# Altium schematic symbol library EwgSwitchers.SchLib: 18 symbols
Pins are listed as number, name and electrical type; pins without a type are passive.

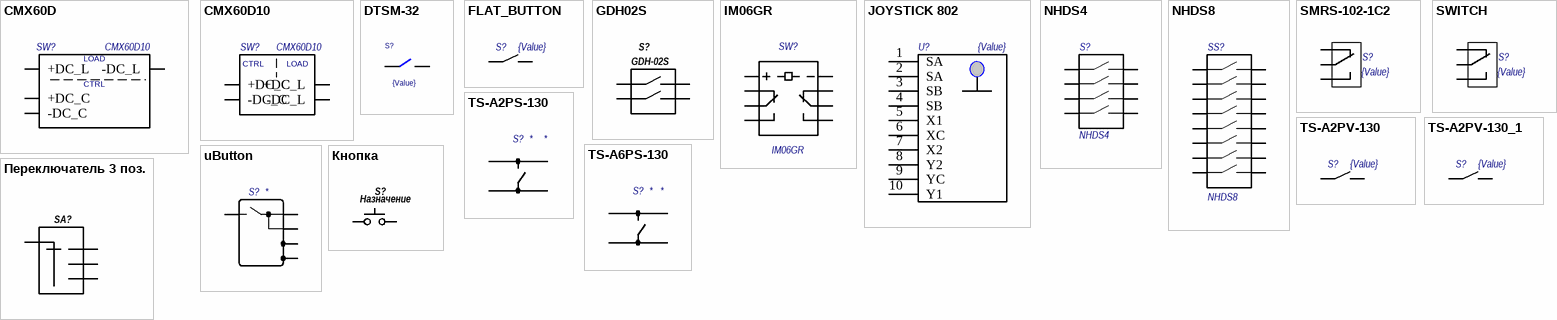
[diagram p0: symbols CMX60D to Переключатель 3 поз.]

## CMX60D
designator SW?  value CMX60D10  (hidden comment: CMX60D)
Реле; Наименование: Crydom, CMX60D10; Тип монтажа: Штыревой; Тип компонента: Реле
footprint CMX60DXX_CRYDOM
pins: 1 +DC_L, 2 -DC_L, 3 +DC_C, 4 -DC_C
text: LOAD; CTRL

## CMX60D10
designator SW?
Реле; Наименование: Crydom, CMX60D10; Тип монтажа: Штыревой; Тип компонента: Реле; Value: CMX60D10
footprint CMX-XXX_CRYDOM
pins: 1 +DC_L, 2 -DC_L, 3 +DC_C, 4 -DC_C
text: CTRL; LOAD

## DTSM-32
designator S?  value {Value}  (hidden comment: *)
Кнопка тактовая; Наименование: Wealth Metal Factory, TD-02XA (DTSM-32N); Тип монтажа: Поверхностный; Тип компонента: Кнопка тактовая
footprint DTSM-32
pins: 1, 2

## FLAT_BUTTON
designator S?  value {Value}  (hidden comment: *)
FLAT_BUTTON; Тип компонента: FLAT_BUTTON
footprint FLAT_BUTTON
pins: 1, 2

## GDH02S
designator S?, comment GDH-02S
DIP-переключатель; Температурный разброс: -30...+85°C; Тип корпуса: SMT; Тип монтажа: Поверхностный; Характеристики: 24V, 25mA; Наименование: GDH-02S; Тип компонента: DIP-переключатель
footprint GDH02S (DIP-switch)
pins: 1 1-4, 2 2-3, 3 3-2, 4 4-1

## IM06GR
designator SW?
Реле; Наименование: Tyco, 2-1462037-3 (IM06GR); Тип монтажа: Поверхностный; Value: *; Тип компонента: Реле
footprint IM06GR
pins: 1, 2, 3, 4, 5, 6, 7, 8

## JOYSTICK 802
designator U?  value {Value}  (hidden comment: *)
Джойстик; Наименование: Megatron, TRY-802; Тип монтажа: Штыревой; Тип компонента: Джойстик
footprint JOYSTICK-802
pins: 1 SA, 2 SA, 3 SB, 4 SB, 5 X1, 6 XC, 7 X2, 8 Y2, 9 YC, 10 Y1

## NHDS4
designator S?
DIP-переключатель; Наименование: NHDS-04; Тип монтажа: Поверхностный; Value: *; Тип компонента: DIP-переключатель
footprint NHDS4
pins: 1, 2, 3, 4, 5, 6, 7, 8

## NHDS8
designator SS?
DIP-переключатель; Наименование: NHDS-08; Тип монтажа: Поверхностный; Value: *; Тип компонента: DIP-переключатель
footprint NHDS8
pins: 1, 2, 3, 4, 5, 6, 7, 8, 9, 10, 11, 12, 13, 14, 15, 16

## SMRS-102-1C2
designator S?, comment {Value}
SMRS-102-1C2; Наименование: Jietong Switch, SMRS-102-1C2-B/B (SWR-82); Тип монтажа: Поверхностный; Тип компонента: SMRS-102-1C2; Value: {Value}
footprint SMRS-102-1C2
pins: 1, 2, 3

## SWITCH
designator S?, comment {Value}
SWITCH; Тип компонента: SWITCH; Value: {Value}
footprint SWITCH
pins: 1, 2, 3

## TS-A2PS-130
designator S?
Кнопка тактовая; Наименование: Wealth Metal Factory, TC-0103 (TS-A2PS-130); Тип монтажа: Штыревой; Тип компонента: Кнопка тактовая; Value: *
footprint TS-A2PS-130
pins: 1, 2, 3, 4

## TS-A2PV-130
designator S?  value {Value}  (hidden comment: *)
Кнопка тактовая; Наименование: Wealth Metal Factory, TC-0204 (TS-A2PV-130); Тип монтажа: Штыревой; Тип компонента: Кнопка тактовая
footprint TS-A2PV-130
pins: 1, 2

## TS-A2PV-130_1
designator S?  value {Value}  (hidden comment: *)
Кнопка тактовая; Тип монтажа: Поверхностный; Тип компонента: Кнопка тактовая
footprint TS-A6PS-130-1
pins: 1, 2

## TS-A6PS-130
designator S?
TS-A6PS-130; Наименование: Wealth Metal Factory, TC-A109 (TS-A6PS-130); Тип монтажа: Штыревой; Тип компонента: TS-A6PS-130; Value: *
footprint TS-A6PS-130
pins: 1, 2, 3, 4

## uButton
designator S?
uButton; Value: *; Тип компонента: uButton
footprint uButton
pins: 1, 2, 3, 4, 5

## Кнопка
designator S?, comment Назначение
Кнопка тактовая; Тип монтажа: Штыревой; Тип компонента: Кнопка тактовая
footprint TACT_SWITCH_6MM
footprint TACT_SWITCH_10MM (5GTH9)
pins: 1, 2

## Переключатель 3 поз.
designator SA?
Переключатель; Температурный разброс: -30...+85°C; Тип корпуса: SMT; Тип монтажа: Поверхностный; Характеристики: 24V, 25mA; Тип компонента: Переключатель
pins: 1 1-4, 3 3-2, 4 4-1, 4 3-3